# Altium footprint library sensor-infratec.PCBLIB: 1 footprints
Each footprint in its own frame and in the unit in brackets; x right, y up, seen from the top. Pads: shape width x height; smd on the part's side, far side on the other; paste and mask are expansions set on the pad; w line width, h text height; cw(c..) or ccw(c..) is an arc to the next point about the centre after c.
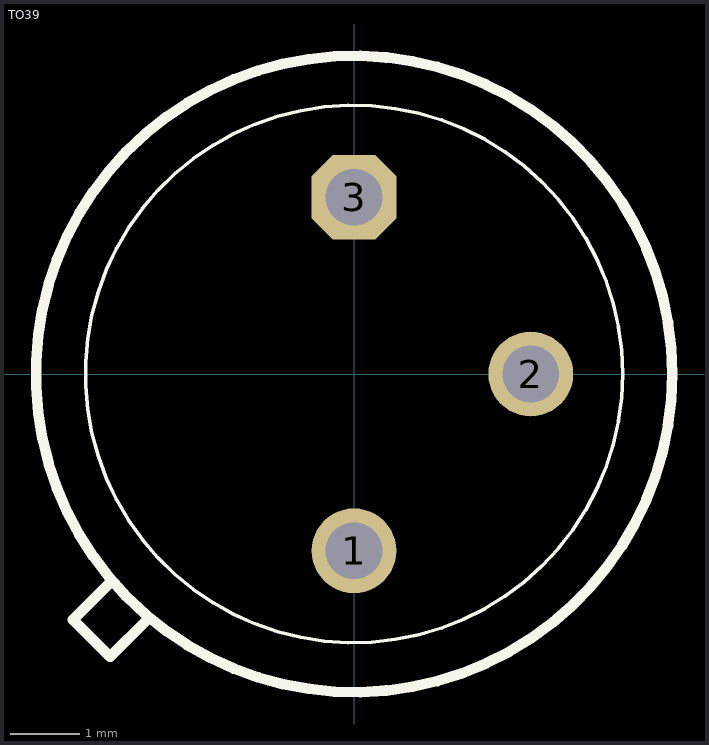
[diagram p0: the footprint, top view; thin cyan lines are the x and y axes]

## TO39 [mil]
pads (3):
  round 48 hole 32: 1(0,-100) 2(100,0)
  oct 48x48 hole 32: 3(0,100)
Top Overlay:
  circle w6: c0,0 r180
  circle w2: c0,0 r152
  lines w6: -138,-118 -159,-139 -138,-160 -117,-139